# Altium footprint library Crystal SMD.PcbLib: 1 footprints
Each footprint in its own frame and in the unit in brackets; x right, y up, seen from the top. Pads: shape width x height; smd on the part's side, far side on the other; paste and mask are expansions set on the pad; w line width, h text height; cw(c..) or ccw(c..) is an arc to the next point about the centre after c.
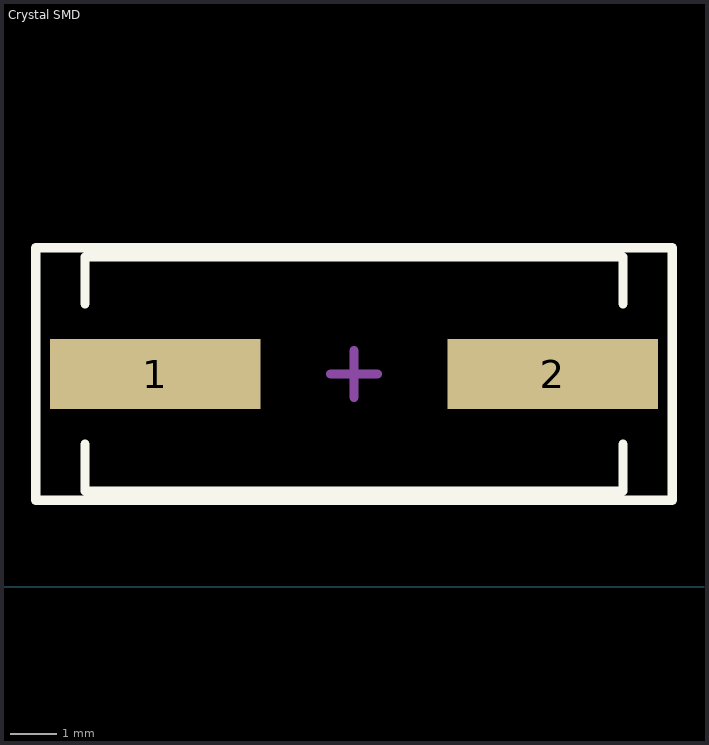
[diagram p0: the footprint, top view; thin cyan lines are the x and y axes]

## Crystal SMD [mm]
height 4
pads (2):
  rect 4.5x1.5 smd: 1(4.363,4.549) 2(12.863,4.549)
Top Overlay:
  lines w0.2: 2.863,3.049 2.863,2.049 14.363,2.049 14.363,3.049 ; 2.863,6.049 2.863,7.049 14.363,7.049 14.363,6.049 ; 1.813,1.849 1.813,7.249 15.413,7.249 15.413,1.849 1.813,1.849
Mechanical 15:
  lines w0.2: 8.113,4.549 9.113,4.549 ; 8.613,4.049 8.613,5.049
3D body "User Library-HC49_SMD.STEP": height 5.18, standoff 0, extent 2.404,2.299 14.704,6.799